# Altium schematic symbol library ProximityDetector.SCHLIB: 6 symbols
Pins are listed as number, name and electrical type; pins without a type are passive.

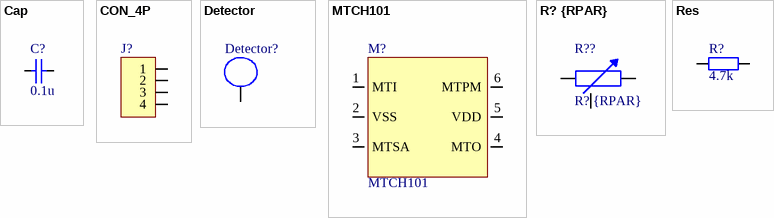
[diagram p0: symbols Cap to Res]

## Cap
designator C?, comment 0.1u
Cap
footprint 0805_C (Chip Capasitor - 0805 Medium)
pins: 1, 2

## CON_4P
designator J?
footprint CON_THT_4P_RM2.54 (Connector; Header; 6 Position)
pins: 1, 2, 3, 4

## Detector
designator Detector?  (value not drawn)
footprint Hole_1.3mm (Mechanical hole, 1.3 mm, 3 mm pad appature)
pins: 1

## MTCH101
designator M?
footprint SOT23-6 (SOT23, 6-Leads, Body 2.9x1.6mm, Pitch 0.95mm, Lead Span 2.8mm, IPC Medium Density)
pins: 1 MTI, 2 VSS, 3 MTSA, 4 MTO, 5 VDD, 6 MTPM

## R? {RPAR}
designator R??
Variabler Widerstand
pins: 1, 2, 3

## Res
designator R?, comment 4.7k
Res
footprint 0805_R (Chip Resistor - 0805 Normal)
pins: 1, 2